# Altium footprint library Comms board footprint.PcbLib: 2 footprints
Each footprint in its own frame and in the unit in brackets; x right, y up, seen from the top. Pads: shape width x height; smd on the part's side, far side on the other; paste and mask are expansions set on the pad; w line width, h text height; cw(c..) or ccw(c..) is an arc to the next point about the centre after c.
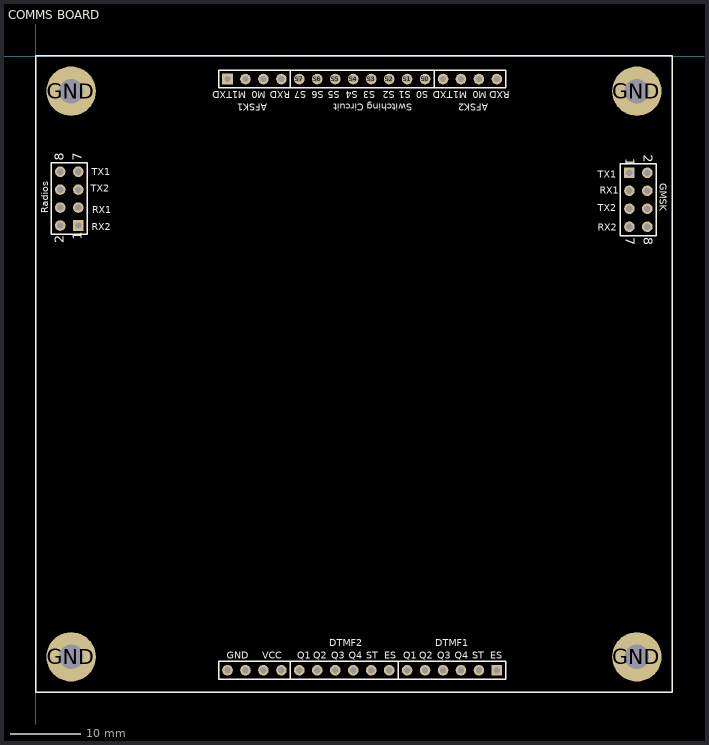
[diagram p0: the footprints below, top view; thin cyan lines are the x and y axes]

## COMMS BOARD [mm]
pads (52):
  round 1.5 hole 0.9: AFSK1_M0(32.167,-3.217) AFSK1_M1(29.627,-3.217) AFSK1_RXD(34.707,-3.217) AFSK2_RXD(65.187,-3.217) AFSK_M0(62.647,-3.217) AFSK_M1(60.107,-3.217) AFSK_TXD(57.567,-3.217) DTMF1_Q1(52.487,-86.837) DTMF1_Q2(55.027,-86.837) DTMF1_Q3(57.567,-86.837) DTMF1_Q4(60.107,-86.837) DTMF1_ST(62.647,-86.837) DTMF2_ES(49.947,-86.837) DTMF2_Q1(37.247,-86.837) DTMF2_Q2(39.787,-86.837) DTMF2_Q3(42.327,-86.837) DTMF2_Q4(44.867,-86.837) DTMF2_ST(47.407,-86.837) GMSK_RX1(83.927,-19.027) GMSK_RX2(83.927,-24.107) GMSK_TX2(83.927,-21.567) GND(3.437,-23.937) GND(3.437,-21.397) GND(3.437,-18.857) GND(3.437,-16.317) GND(27.087,-86.837) GND(29.627,-86.837) GND(86.467,-24.107) GND(86.467,-21.567) GND(86.467,-19.027) GND(86.467,-16.487) RX1(5.977,-21.397) S0(55.027,-3.217) S1(52.487,-3.217) S2(49.947,-3.217) S3(47.407,-3.217) S4(44.867,-3.217) S5(42.327,-3.217) S6(39.787,-3.217) S7(37.247,-3.217) TX1(5.977,-16.317) TX2(5.977,-18.857) VCC(32.167,-86.837) VCC(34.707,-86.837)
  rect 1.5x1.5 hole 0.9: AFSK1_TXD(27.087,-3.217) DTMF1_ES(65.187,-86.837) GMSK_TX1(83.927,-16.487) RX2(5.977,-23.937)
  round 7 hole 3.5: GND(4.977,-84.937) GND(4.977,-4.937) GND(84.977,-84.937) GND(84.977,-4.937)
Top Overlay:
  lines w0.2: 35.966,-4.487 35.966,-1.963 ; 35.985,-88.104 35.985,-85.58 ; 51.225,-88.104 51.225,-85.58 ; 56.305,-4.487 56.305,-1.963 ; 2.167,-25.207 7.247,-25.207 7.247,-15.047 2.167,-15.047 2.167,-25.207 ; 25.817,-88.107 64.552,-88.107 66.457,-88.107 66.457,-85.567 25.817,-85.567 25.817,-88.107 ; 25.817,-4.487 25.817,-1.947 27.722,-1.947 66.457,-1.947 66.457,-4.487 25.817,-4.487 ; 82.657,-25.377 87.737,-25.377 87.737,-15.217 82.657,-15.217 82.657,-25.377
  lines w0.254: -0.023,-89.937 -0.023,0.063 89.477,0.063 89.977,0.063 89.977,-89.937 -0.023,-89.937
  text "RX1" at 7.977,-22.237 h1
  text "RX2" at 7.877,-24.637 h1
  text "Radios" at 1.727,-22.187 h1
  text "TX2" at 7.777,-19.137 h1
  text "TX1" at 7.877,-16.837 h1
  text "GMSK" at 88.227,-17.937 h1
  text "TX1" at 79.477,-17.187 h1
  text "RX1" at 79.727,-19.437 h1
  text "TX2" at 79.477,-21.937 h1
  text "RX2" at 79.477,-24.687 h1
  text "TXD" at 27.727,-4.937 h1
  text "M0" at 32.477,-4.937 h1
  text "M1" at 29.727,-4.937 h1
  text "RXD" at 35.977,-4.937 h1
  text "AFSK1" at 32.727,-6.687 h1
  text "S2" at 50.727,-4.937 h1
  text "S3" at 47.977,-4.937 h1
  text "S4" at 45.477,-4.937 h1
  text "S5" at 42.977,-4.937 h1
  text "S6" at 40.727,-4.937 h1
  text "S7" at 38.227,-4.937 h1
  text "GND" at 26.977,-85.187 h1
  text "VCC" at 31.977,-85.187 h1
  text "Q1" at 36.977,-85.187 h1
  text "DTMF2" at 41.477,-83.437 h1
  text "Q2" at 39.227,-85.187 h1
  text "Q3" at 41.727,-85.187 h1
  text "Q4" at 44.227,-85.187 h1
  text "ST" at 46.727,-85.187 h1
  text "ES" at 49.227,-85.187 h1
  text "ES" at 64.227,-85.187 h1
  text "ST" at 61.727,-85.187 h1
  text "Q4" at 59.227,-85.187 h1
  text "Q3" at 56.727,-85.187 h1
  text "Q2" at 54.227,-85.187 h1
  text "DTMF1" at 56.477,-83.437 h1
  text "Q1" at 51.977,-85.187 h1
  text "AFSK2" at 63.977,-6.687 h1
  text "RXD" at 66.977,-4.937 h1
  text "M1" at 60.977,-4.937 h1
  text "M0" at 63.727,-4.937 h1
  text "TXD" at 58.977,-4.937 h1
  text "S0" at 55.477,-4.937 h1
  text "S1" at 52.977,-4.937 h1
  text "Switching Circuit" at 53.227,-6.687 h1
  text "8" at 3.945,-14.793 h1.27
  text "7" at 6.485,-14.793 h1.27
  text "1" at 6.485,-25.969 h1.27
  text "2" at 3.945,-26.477 h1.27
  text "8" at 85.959,-25.631 h1.27
  text "7" at 83.419,-25.631 h1.27
  text "1" at 83.419,-14.455 h1.27
  text "2" at 85.959,-13.947 h1.27

## PCBComponent_1 [mm]